# EAGLE library part XR-2321D (library exar)
V.23/V.21 MODEM
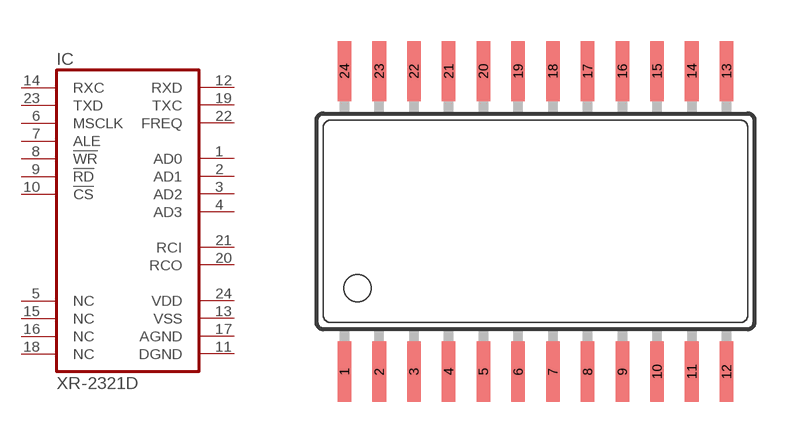
[diagram p106: symbol with the pads of SOP-24; footprint SOP-24]

Designator prefix IC

## XR-2321D (OC_FARNELL: unknown; OC_NEWARK: unknown)  [SOP-24]
1  AD0
2  AD1
3  AD2
4  AD3
5  NC  nc
6  MSCLK  in
7  ALE  in
8  !WR  in
9  !RD  in
10  !CS  in
11  DGND  pwr
12  RXD  out
13  VSS  pwr
14  RXC  in
15  NC  nc
16  NC  nc
17  AGND  pwr
18  NC  nc
19  TXC  out
20  RCO
21  RCI
22  FREQ  out
23  TXD  in
24  VDD  pwr

## Footprint SOP-24 (pad centres in mm)
Small Outline Package
smd 0.5 x 2.2: 1 -6.985,-5.5; 2 -5.715,-5.5; 3 -4.445,-5.5; 4 -3.175,-5.5; 5 -1.905,-5.5; 6 -0.635,-5.5; 7 0.635,-5.5; 8 1.905,-5.5; 9 3.175,-5.5; 10 4.445,-5.5; 11 5.715,-5.5; 12 6.985,-5.5; 13 6.985,5.5; 14 5.715,5.5; 15 4.445,5.5; 16 3.175,5.5; 17 1.905,5.5; 18 0.635,5.5; 19 -0.635,5.5; 20 -1.905,5.5; 21 -3.175,5.5; 22 -4.445,5.5; 23 -5.715,5.5; 24 -6.985,5.5